# EAGLE library part GY-521 (library debauer_modules)
PIN HEADER
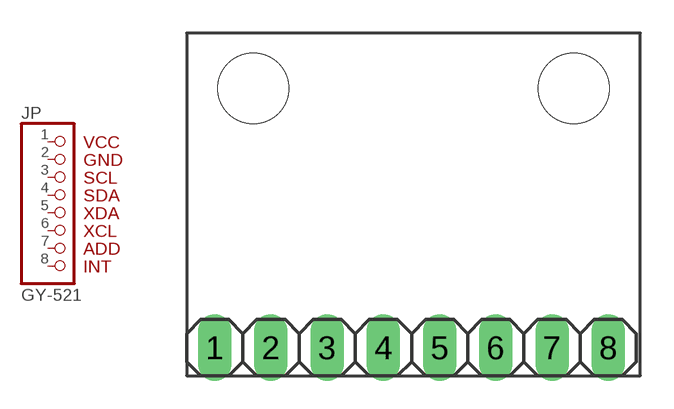
[diagram p2: symbol with the pads of GY-521; footprint GY-521]

Designator prefix JP

## GY-521  [GY-521]
1  1  pas
2  2  pas
3  3  pas
4  4  pas
5  5  pas
6  6  pas
7  7  pas
8  8  pas

## Footprint GY-521 (pad centres in mm)
PIN HEADER
drill 1.016 long: 1 1.27,1.27; 2 3.81,1.27; 3 6.35,1.27; 4 8.89,1.27; 5 11.43,1.27; 6 13.97,1.27; 7 16.51,1.27; 8 19.05,1.27
hole 3.2 at 3,13
hole 3.2 at 17.5,13